# EAGLE library part TRENNSICHERUNG_3-POL (library e-sicherungen)
Sicherungstrennschalter, 3-pol.
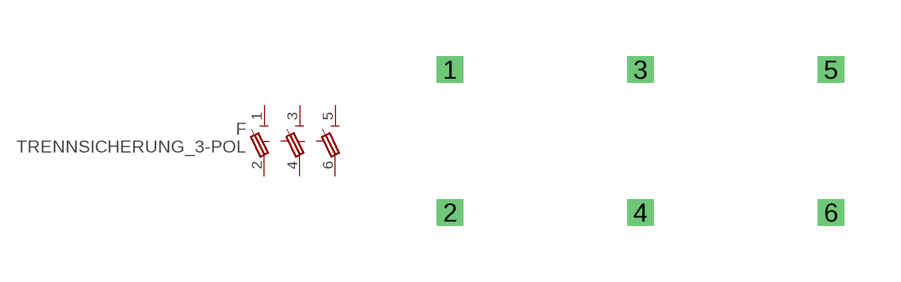
[diagram p3: symbol with the pads of TRENNSICHERUNG_3-POL; footprint TRENNSICHERUNG_3-POL]

Designator prefix F

## TRENNSICHERUNG_3-POL  [TRENNSICHERUNG_3-POL]
1  1  pas
2  2  pas
3  3  pas
4  4  pas
5  5  pas
6  6  pas

## Footprint TRENNSICHERUNG_3-POL (pad centres in mm)
Dummy
drill 0.2 pad 0.6 square: 1 -5.08,1.905; 2 -5.08,-1.905; 3 0,1.905; 4 0,-1.905; 5 5.08,1.905; 6 5.08,-1.905